# Altium integrated library WE-CST Current Sense Transformer.IntLib: 8 symbols
Pins are listed as number, name and electrical type; pins without a type are passive.

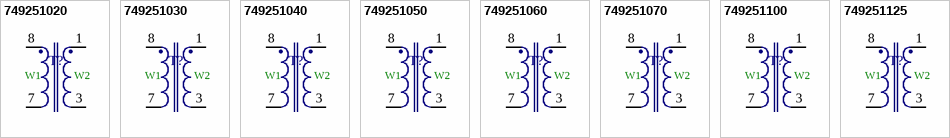
[diagram p0: symbols 749251020 to 749251125]

## 749251020
designator T?
Current Sense Transformer WE-CST , L=80µH; PartNumber: 749251020; Inductance: 80µH; PackageReference: EE5; ComponentLink1Description: Manufacturer URL; ComponentLink1URL: http://www.we-online.com; ComponentLink2Description: Datasheet; ComponentLink2URL: http://www.we-online.de/katalog/media/pdf/749251020.pdf
footprint EE5 (SMD, 6-Leads, Body 7.2x6.0mm (max), Pitch 1.85mm, IPC Medium Density)
pins: 1, 3, 7, 8
text: W1; W2

## 749251030
designator T?
Current Sense Transformer WE-CST , L=180µH; PartNumber: 749251030; Inductance: 180µH; PackageReference: EE5; ComponentLink1Description: Manufacturer URL; ComponentLink1URL: http://www.we-online.com; ComponentLink2Description: Datasheet; ComponentLink2URL: http://www.we-online.de/katalog/media/pdf/749251030.pdf
footprint EE5 (SMD, 6-Leads, Body 7.2x6.0mm (max), Pitch 1.85mm, IPC Medium Density)
pins: 1, 3, 7, 8
text: W1; W2

## 749251040
designator T?
Current Sense Transformer WE-CST , L=320µH; PartNumber: 749251040; Inductance: 320µH; PackageReference: EE5; ComponentLink1Description: Manufacturer URL; ComponentLink1URL: http://www.we-online.com; ComponentLink2Description: Datasheet; ComponentLink2URL: http://www.we-online.de/katalog/media/pdf/749251040.pdf
footprint EE5 (SMD, 6-Leads, Body 7.2x6.0mm (max), Pitch 1.85mm, IPC Medium Density)
pins: 1, 3, 7, 8
text: W1; W2

## 749251050
designator T?
Current Sense Transformer WE-CST , L=500µH; PartNumber: 749251050; Inductance: 500µH; PackageReference: EE5; ComponentLink1Description: Manufacturer URL; ComponentLink1URL: http://www.we-online.com; ComponentLink2Description: Datasheet; ComponentLink2URL: http://www.we-online.de/katalog/media/pdf/749251050.pdf
footprint EE5 (SMD, 6-Leads, Body 7.2x6.0mm (max), Pitch 1.85mm, IPC Medium Density)
pins: 1, 3, 7, 8
text: W1; W2

## 749251060
designator T?
Current Sense Transformer WE-CST , L=720µH; PartNumber: 749251060; Inductance: 720µH; PackageReference: EE5; ComponentLink1Description: Manufacturer URL; ComponentLink1URL: http://www.we-online.com; ComponentLink2Description: Datasheet; ComponentLink2URL: http://www.we-online.de/katalog/media/pdf/749251060.pdf
footprint EE5 (SMD, 6-Leads, Body 7.2x6.0mm (max), Pitch 1.85mm, IPC Medium Density)
pins: 1, 3, 7, 8
text: W1; W2

## 749251070
designator T?
Current Sense Transformer WE-CST , L=980µH; PartNumber: 749251070; Inductance: 980µH; PackageReference: EE5; ComponentLink1Description: Manufacturer URL; ComponentLink1URL: http://www.we-online.com; ComponentLink2Description: Datasheet; ComponentLink2URL: http://www.we-online.de/katalog/media/pdf/749251070.pdf
footprint EE5 (SMD, 6-Leads, Body 7.2x6.0mm (max), Pitch 1.85mm, IPC Medium Density)
pins: 1, 3, 7, 8
text: W1; W2

## 749251100
designator T?
Current Sense Transformer WE-CST , L=2000µH; PartNumber: 749251100; Inductance: 2000µH; PackageReference: EE5; ComponentLink1Description: Manufacturer URL; ComponentLink1URL: http://www.we-online.com; ComponentLink2Description: Datasheet; ComponentLink2URL: http://www.we-online.de/katalog/media/pdf/749251100.pdf
footprint EE5 (SMD, 6-Leads, Body 7.2x6.0mm (max), Pitch 1.85mm, IPC Medium Density)
pins: 1, 3, 7, 8
text: W1; W2

## 749251125
designator T?
Current Sense Transformer WE-CST , L=3000µH; PartNumber: 749251125; Inductance: 3000µH; PackageReference: EE5; ComponentLink1Description: Manufacturer URL; ComponentLink1URL: http://www.we-online.com; ComponentLink2Description: Datasheet; ComponentLink2URL: http://www.we-online.de/katalog/media/pdf/749251125.pdf
footprint EE5 (SMD, 6-Leads, Body 7.2x6.0mm (max), Pitch 1.85mm, IPC Medium Density)
pins: 1, 3, 7, 8
text: W1; W2